# Altium footprint library TE.PcbLib: 22 footprints (part 2 of 2)
Each footprint in its own frame and in the unit in brackets; x right, y up, seen from the top. Pads: shape width x height; smd on the part's side, far side on the other; paste and mask are expansions set on the pad; w line width, h text height; cw(c..) or ccw(c..) is an arc to the next point about the centre after c.
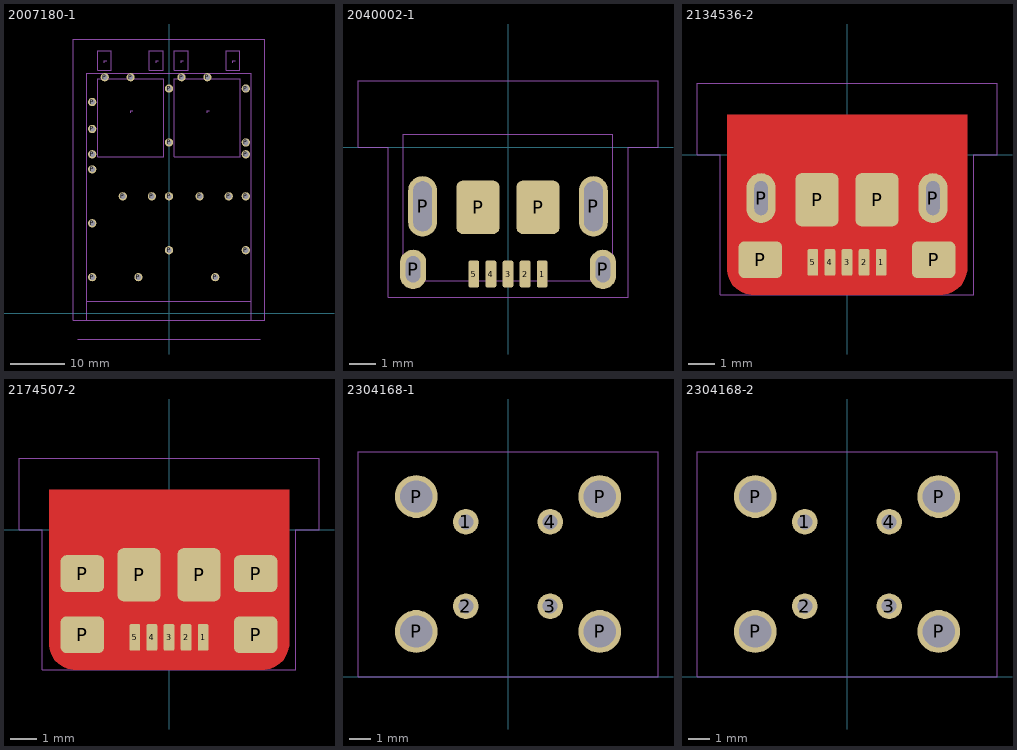
[diagram p1: the footprints below, top view; thin cyan lines are the x and y axes]

## 2007180-1 [mm] "SFP Cage"
pads (25):
  round 1.524 hole 1.05: P(-14.25,6.73) P(-14.25,16.73) P(-14.25,26.73) P(-8.575,21.73) P(-5.675,6.73) P(-3.175,21.73) P(5.675,21.73) P(8.575,6.73) P(11.075,21.73) P(14.25,11.73) P(14.25,21.73) P(14.25,31.73) P(14.25,41.73)
  round 1.524 hole 0.95: P(-14.25,29.53) P(-14.25,34.23) P(-14.25,39.23) P(-11.925,43.83) P(-7.125,43.83) P(0,11.73) P(0,21.73) P(0,31.73) P(0,41.73) P(2.325,43.83) P(7.125,43.83) P(14.25,29.53)
Top Courtyard:
  lines w0.025: -15.25,-1.27 -15.25,44.53 15.25,44.53 15.25,-1.27 ; -15.25,2.23 15.25,2.23 ; -11.98,46.53 -11.98,46.93 -11.58,46.93 ; -7.125,37.255 -7.125,37.63 -6.75,37.63 ; -2.38,46.53 -2.38,46.93 -1.98,46.93 ; 2.27,46.53 2.27,46.93 2.67,46.93 ; 7.125,37.255 7.125,37.63 7.5,37.63 ; 11.87,46.53 11.87,46.93 12.27,46.93 ; -17.78,-1.27 17.78,-1.27 17.78,50.927 -17.78,50.927 -17.78,-1.27 ; -13.25,29.03 -1,29.03 -1,43.53 -13.25,43.53 -13.25,29.03 ; -13.25,45.15 -13.25,48.71 -10.71,48.71 -10.71,45.15 -13.25,45.15 ; -3.65,45.15 -1.11,45.15 -1.11,48.71 -3.65,48.71 -3.65,45.15 ; 1,29.03 1,43.53 13.25,43.53 13.25,29.03 1,29.03 ; 1,45.15 1,48.71 3.54,48.71 3.54,45.15 1,45.15 ; 10.6,45.15 13.14,45.15 13.14,48.71 10.6,48.71 10.6,45.15
Top Component Outline:
  lines w0.127: -16.925,-4.745 16.925,-4.745
3D body "TE-2007180.stp": height 15.02, standoff -2.27, extent -16.925,-4.745 16.925,50.055

## 2040002-1 [mil] "REC TYPE B ASSY (Au) MICRO USB"
pads (11):
  rrect30% 16x40 smd: 1(51.18,-190) 2(25.59,-190) 3(0,-190) 4(-25.59,-190) 5(-51.18,-190)
  oval 39.37x59.06 hole 22.05 slot 39.37 at 90 deg: P(-142.32,-182.99) P(142.32,-183)
  oval 43.31x90.55 hole 27.95 slot 74.8 at 90 deg: P(-128.15,-88.5) P(128.15,-88.5)
  rrect30% 65x80 smd paste-10: P(-45,-90) P(45,-90)
Top Courtyard:
  lines w1: -225,0 -180,0 -180,-225 180,-225 180,0 225,0 225,100 -225,100 -225,0
Top Component Outline:
  lines w1: -157.48,-200.47 -157.48,20 157.48,20 157.48,-200.47 -157.48,-200.47
3D body "TE-2040002-1.stp": height 108.27, standoff -24.41, extent -157.48,-200.47 157.48,20

## 2134536-2 [mil] "REC TYPE AB DIP FLANGELESS Mic"
pads (11):
  rrect30% 16x40 smd: 1(51.18,-161.31) 2(25.59,-161.31) 3(0,-161.31) 4(-25.59,-161.31) 5(-51.18,-161.31)
  rrect30% 65x55 smd paste-10: P(-130,-157.31) P(130,-157.31)
  oval 43.31x74.8 hole 19.68 slot 51.18 at 90 deg: P(-128.94,-64.96) P(128.94,-64.96)
  rrect30% 65x80 smd paste-10: P(-45,-67.31) P(45,-67.31)
Top Layer:
  pour cut-out: -180,60 -180,-170 -180,-173.94 -178.46,-181.67 -175.45,-188.95 -171.07,-195.5 -165.5,-201.07 -158.95,-205.45 -151.67,-208.46 -143.94,-210 -140,-210 140,-210 143.94,-210 151.67,-208.46 158.95,-205.45 165.5,-201.07 171.07,-195.5 175.45,-188.95 178.46,-181.67 180,-173.94 180,-170 180,60
Top Courtyard:
  lines w1: -225,0 -190,0 -190,-210 190,-210 190,0 225,0 225,107.56 -225,107.56 -225,0
3D body "c-2134536-2-e1-3d.stp": height 105.3, standoff -19.5, extent -148.03,-177.17 148.03,19.68

## 2174507-2 [mil] "REC TYPE-B ASSY MICRO USB I/O"
pads (11):
  rrect30% 16x40 smd: 1(51.18,-161.31) 2(25.59,-161.31) 3(0,-161.31) 4(-25.59,-161.31) 5(-51.18,-161.31)
  rrect30% 65x55 smd paste-10: P(-130,-157.31) P(-130,-65.58) P(130,-157.31) P(130,-65.58)
  rrect30% 65x80 smd paste-10: P(-45,-67.31) P(45,-67.31)
Top Layer:
  pour cut-out: -180,60 -180,-170 -180,-173.94 -178.46,-181.67 -175.45,-188.95 -171.07,-195.5 -165.5,-201.07 -158.95,-205.45 -151.67,-208.46 -143.94,-210 -140,-210 140,-210 143.94,-210 151.67,-208.46 158.95,-205.45 165.5,-201.07 171.07,-195.5 175.45,-188.95 178.46,-181.67 180,-173.94 180,-170 180,60
Top Courtyard:
  lines w1: -225,0 -225,107.56 225,107.56 225,0 190,0 190,-210 -190,-210 -190,0 -225,0
3D body "c-2174507-2-b-3d.stp": height 105.3, standoff -1, extent -153.54,-177.16 153.54,19.69

## 2304168-1 [mil]
pads (8):
  round 48 hole 28: 1(-78.74,288.74) 2(-78.74,131.26) 3(78.74,131.26) 4(78.74,288.74)
  round 80 hole 60: P(-171.26,84.02) P(-171.26,335.98) P(171.26,84.02) P(171.26,335.98)
Top Courtyard:
  lines w1: -280,0 -280,420 280,420 280,0 -280,0
3D body "TE-2304168-1.stp": height 531.5, standoff -86.61, extent -236.22,-585.28 236.22,371.42

## 2304168-2 [mil]
pads (8):
  round 48 hole 28: 1(-78.74,288.74) 2(-78.74,131.26) 3(78.74,131.26) 4(78.74,288.74)
  round 80 hole 60: P(-171.26,84.02) P(-171.26,335.98) P(171.26,84.02) P(171.26,335.98)
Top Designator:
  text ".Designator" at -127.64,187.5 h35
Top Courtyard:
  lines w1: -280,0 -280,420 280,420 280,0 -280,0
3D body "TE-2304168-2.stp": height 531.5, standoff -86.61, extent -236.22,-585.27 236.22,371.42